# Altium footprint library FT231XS-R.PcbLib: 4 footprints
Each footprint in its own frame and in the unit in brackets; x right, y up, seen from the top. Pads: shape width x height; smd on the part's side, far side on the other; paste and mask are expansions set on the pad; w line width, h text height; cw(c..) or ccw(c..) is an arc to the next point about the centre after c.
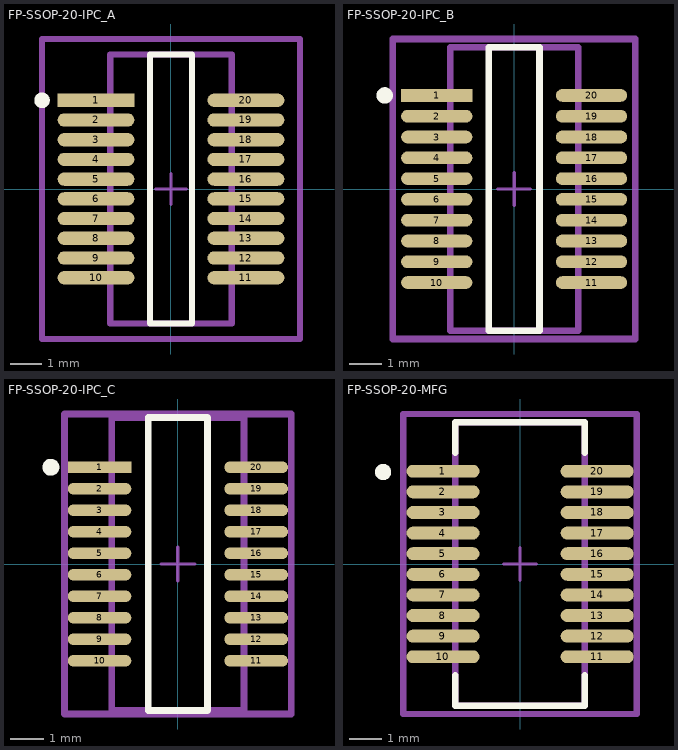
[diagram p0: the footprints below, top view; thin cyan lines are the x and y axes]

## FP-SSOP-20-IPC_A [mil]
pads (20):
  rect 97.53x16.81 smd paste+0 mask+0: 1(-95.01,112.5)
  rrect100% 97.53x16.81 smd paste+0 mask+0: 2(-95.01,87.5) 3(-95.01,62.5) 4(-95.01,37.5) 5(-95.01,12.5) 6(-95.01,-12.5) 7(-95.01,-37.5) 8(-95.01,-62.5) 9(-95.01,-87.5) 10(-95.01,-112.5) 11(95.01,-112.5) 12(95.01,-87.5) 13(95.01,-62.5) 14(95.01,-37.5) 15(95.01,-12.5) 16(95.01,12.5) 17(95.01,37.5) 18(95.01,62.5) 19(95.01,87.5) 20(95.01,112.5)
Top Overlay:
  circle w9.84: c-163.46,112.5 r4.92
  lines w7.87: -26.56,-170.5 26.56,-170.5 26.56,170.5 -26.56,170.5 -26.56,-170.5
Top Assembly:
  lines w7.87: -163.46,-190.19 163.46,-190.19 163.46,190.19 -163.46,190.19 -163.46,-190.19
  text ".Designator" at 0,7.39 h39.37
Top 3D Body:
  lines w7.87: -77,-170.5 77,-170.5 77,170.5 -77,170.5 -77,-170.5
Top Courtyard:
  lines w7.87: -163.46,-190.19 163.46,-190.19 163.46,190.19 -163.46,190.19 -163.46,-190.19
Top Component Center:
  lines w3.94: -19.68,0 19.68,0 ; 0,-19.68 0,19.68
3D body "IC_FTDI_FT231XS-R_eec.STEP": height 10, standoff 0, extent -163.46,-190.19 163.46,190.19

## FP-SSOP-20-IPC_B [mil]
pads (20):
  rect 85.72x15.24 smd paste+0 mask+0: 1(-93.04,112.5)
  rrect100% 85.72x15.24 smd paste+0 mask+0: 2(-93.04,87.5) 3(-93.04,62.5) 4(-93.04,37.5) 5(-93.04,12.5) 6(-93.04,-12.5) 7(-93.04,-37.5) 8(-93.04,-62.5) 9(-93.04,-87.5) 10(-93.04,-112.5) 11(93.04,-112.5) 12(93.04,-87.5) 13(93.04,-62.5) 14(93.04,-37.5) 15(93.04,-12.5) 16(93.04,12.5) 17(93.04,37.5) 18(93.04,62.5) 19(93.04,87.5) 20(93.04,112.5)
Top Overlay:
  circle w9.84: c-155.58,112.5 r4.92
  lines w7.87: -30.5,-170.5 30.5,-170.5 30.5,170.5 -30.5,170.5 -30.5,-170.5
Top Assembly:
  lines w7.87: -145.74,-180.34 145.74,-180.34 145.74,180.34 -145.74,180.34 -145.74,-180.34
  text ".Designator" at 0,7.39 h39.37
Top 3D Body:
  lines w7.87: -77,-170.5 77,-170.5 77,170.5 -77,170.5 -77,-170.5
Top Courtyard:
  lines w7.87: -145.74,-180.34 145.74,-180.34 145.74,180.34 -145.74,180.34 -145.74,-180.34
Top Component Center:
  lines w3.94: -19.68,0 19.68,0 ; 0,-19.68 0,19.68
3D body "IC_FTDI_FT231XS-R_eec.STEP": height 10, standoff 0, extent -145.74,-180.34 145.74,180.34

## FP-SSOP-20-IPC_C [mil]
pads (20):
  rect 73.91x13.66 smd paste+0 mask+0: 1(-91.07,112.5)
  rrect100% 73.91x13.66 smd paste+0 mask+0: 2(-91.07,87.5) 3(-91.07,62.5) 4(-91.07,37.5) 5(-91.07,12.5) 6(-91.07,-12.5) 7(-91.07,-37.5) 8(-91.07,-62.5) 9(-91.07,-87.5) 10(-91.07,-112.5) 11(91.07,-112.5) 12(91.07,-87.5) 13(91.07,-62.5) 14(91.07,-37.5) 15(91.07,-12.5) 16(91.07,12.5) 17(91.07,37.5) 18(91.07,62.5) 19(91.07,87.5) 20(91.07,112.5)
Top Overlay:
  circle w9.84: c-147.71,112.5 r4.92
  lines w7.87: -34.43,-170.5 34.43,-170.5 34.43,170.5 -34.43,170.5 -34.43,-170.5
Top Assembly:
  lines w7.87: -131.96,-174.44 131.96,-174.44 131.96,174.44 -131.96,174.44 -131.96,-174.44
  text ".Designator" at 0,7.39 h39.37
Top 3D Body:
  lines w7.87: -77,-170.5 77,-170.5 77,170.5 -77,170.5 -77,-170.5
Top Courtyard:
  lines w7.87: -131.96,-174.44 131.96,-174.44 131.96,174.44 -131.96,174.44 -131.96,-174.44
Top Component Center:
  lines w3.94: -19.68,0 19.68,0 ; 0,-19.68 0,19.68
3D body "IC_FTDI_FT231XS-R_eec.STEP": height 10, standoff 0, extent -131.96,-174.44 131.96,174.44

## FP-SSOP-20-MFG [mm]
pads (20):
  rrect100% 2.25x0.4 smd paste+0 mask+0: 1(-2.375,2.857) 2(-2.375,2.222) 3(-2.375,1.587) 4(-2.375,0.953) 5(-2.375,0.318) 6(-2.375,-0.318) 7(-2.375,-0.953) 8(-2.375,-1.587) 9(-2.375,-2.222) 10(-2.375,-2.857) 11(2.375,-2.857) 12(2.375,-2.222) 13(2.375,-1.587) 14(2.375,-0.953) 15(2.375,-0.318) 16(2.375,0.318) 17(2.375,0.953) 18(2.375,1.587) 19(2.375,2.222) 20(2.375,2.857)
Top Overlay:
  circle w0.25: c-4.219,2.832 r0.125
  lines w0.2: -1.994,-3.433 -1.994,-4.369 1.994,-4.369 1.994,-3.433 ; -1.994,3.433 -1.994,4.369 1.994,4.369 1.994,3.433
Top Assembly:
  lines w0.2: -3.6,-4.621 3.6,-4.621 3.6,4.621 -3.6,4.621 -3.6,-4.621
  text ".Designator" at 0,0.188 h1
Top 3D Body:
  lines w0.2: -1.994,-4.369 1.994,-4.369 1.994,4.369 -1.994,4.369 -1.994,-4.369
Top Courtyard:
  lines w0.2: -3.6,-4.621 3.6,-4.621 3.6,4.621 -3.6,4.621 -3.6,-4.621
Top Component Center:
  lines w0.1: -0.5,0 0.5,0 ; 0,-0.5 0,0.5
3D body "IC_FTDI_FT231XS-R_eec.STEP": height 0.25, standoff 0, extent -3.6,-4.621 3.6,4.621